# EAGLE library part DLS1PP5AN23X (library untitled)
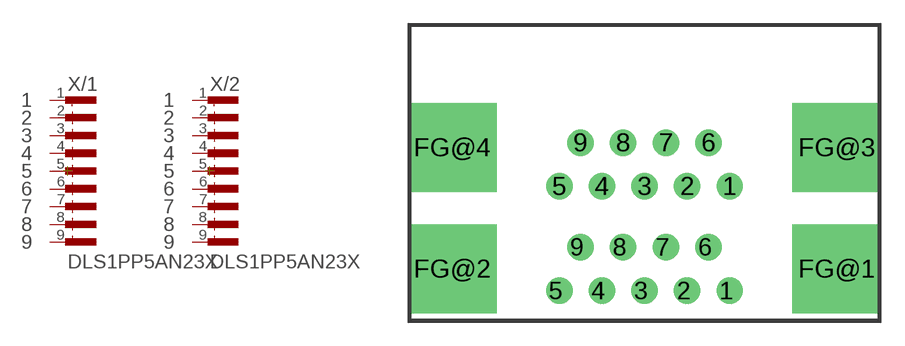
[diagram p1: symbol with the pads of DLS1PP5AN23X; footprint DLS1PP5AN23X]

Designator prefix X; gates /1=ST9 /2=ST9 BEF1=BEFESTIGUNG BEF2=BEFESTIGUNG BEF3=BEFESTIGUNG BEF4=BEFESTIGUNG

## DLS1PP5AN23X  [DLS1PP5AN23X]
1  /1:1  pas
1  /2:1  pas
2  /1:2  pas
2  /2:2  pas
3  /1:3  pas
3  /2:3  pas
4  /1:4  pas
4  /2:4  pas
5  /1:5  pas
5  /2:5  pas
6  /2:6  pas
6  /1:6  pas
7  /1:7  pas
7  /2:7  pas
8  /1:8  pas
8  /2:8  pas
9  /1:9  pas
9  /2:9  pas
FG@1  BEF1:1  pas
FG@2  BEF2:1  pas
FG@3  BEF3:1  pas
FG@4  BEF4:1  pas

## Footprint DLS1PP5AN23X (pad centres in mm)
drill 1 pad 1.72 round: 1 5.54,-10.62; 1  5.54,-17.42; 2 2.77,-10.62; 2  2.77,-17.42; 3 0,-10.62; 3  0,-17.42; 4 -2.77,-10.62; 4  -2.77,-17.42; 5 -5.54,-10.62; 5  -5.54,-17.42; 6 4.155,-7.78; 6  4.155,-14.58; 7 1.385,-7.78; 7  1.385,-14.58; 8 -1.385,-7.78; 8  -1.385,-14.58; 9 -4.155,-7.78; 9  -4.155,-14.58
drill 3.1 pad 5.8 square: FG@1 12.5,-16; FG@2 -12.5,-16; FG@3 12.5,-8.1; FG@4 -12.5,-8.1